# EAGLE library part TMS2808-LQFP (library tms2808)
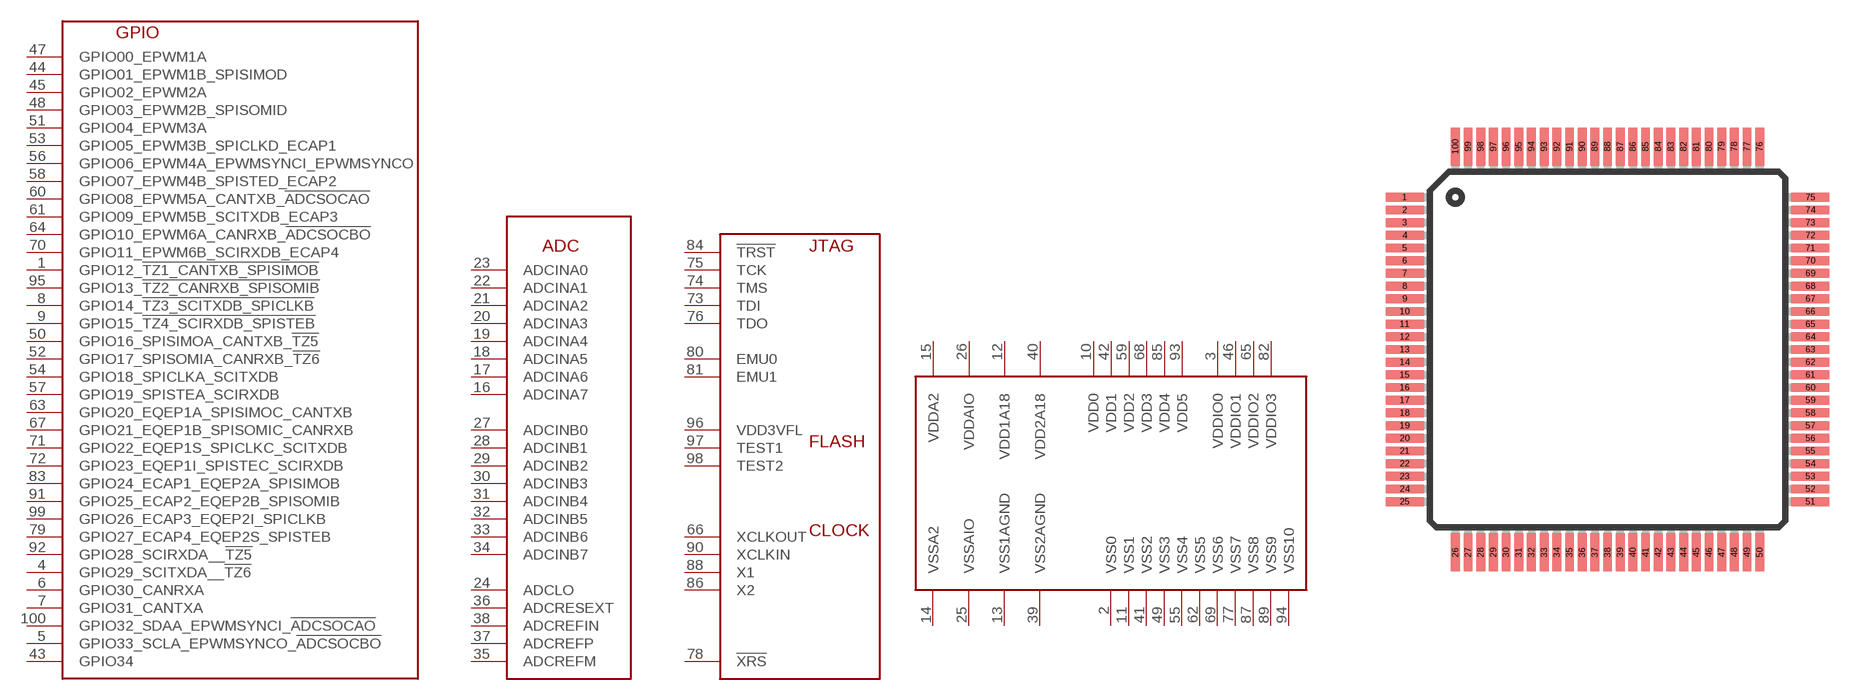
[diagram p0: symbol with the pads of TQFP100; footprint TQFP100]

Designator prefix -; gates G$1=S1 ADC=S2 G$3=S3 JTAG_FLASH_CLOCK=S4

## TMS2808-LQFP  [TQFP100]
1  G$1:GPIO12_!TZ1_CANTXB_SPISIMOB
2  JTAG_FLASH_CLOCK:VSS0  sup
3  JTAG_FLASH_CLOCK:VDDIO0  sup
4  G$1:GPIO29_SCITXDA__!TZ6
5  G$1:GPIO33_SCLA_EPWMSYNCO_!ADCSOCBO
6  G$1:GPIO30_CANRXA
7  G$1:GPIO31_CANTXA
8  G$1:GPIO14_!TZ3_SCITXDB_SPICLKB
9  G$1:GPIO15_!TZ4_SCIRXDB_SPISTEB
10  JTAG_FLASH_CLOCK:VDD0  sup
11  JTAG_FLASH_CLOCK:VSS1  sup
12  JTAG_FLASH_CLOCK:VDD1A18  sup
13  JTAG_FLASH_CLOCK:VSS1AGND  sup
14  JTAG_FLASH_CLOCK:VSSA2  sup
15  JTAG_FLASH_CLOCK:VDDA2  sup
16  ADC:ADCINA7
17  ADC:ADCINA6
18  ADC:ADCINA5
19  ADC:ADCINA4
20  ADC:ADCINA3
21  ADC:ADCINA2
22  ADC:ADCINA1
23  ADC:ADCINA0
24  ADC:ADCLO
25  JTAG_FLASH_CLOCK:VSSAIO  sup
26  JTAG_FLASH_CLOCK:VDDAIO  sup
27  ADC:ADCINB0
28  ADC:ADCINB1
29  ADC:ADCINB2
30  ADC:ADCINB3
31  ADC:ADCINB4
32  ADC:ADCINB5
33  ADC:ADCINB6
34  ADC:ADCINB7
35  ADC:ADCREFM
36  ADC:ADCRESEXT
37  ADC:ADCREFP
38  ADC:ADCREFIN
39  JTAG_FLASH_CLOCK:VSS2AGND  sup
40  JTAG_FLASH_CLOCK:VDD2A18  sup
41  JTAG_FLASH_CLOCK:VSS2  sup
42  JTAG_FLASH_CLOCK:VDD1  sup
43  G$1:GPIO34
44  G$1:GPIO01_EPWM1B_SPISIMOD
45  G$1:GPIO02_EPWM2A
46  JTAG_FLASH_CLOCK:VDDIO1  sup
47  G$1:GPIO00_EPWM1A
48  G$1:GPIO03_EPWM2B_SPISOMID
49  JTAG_FLASH_CLOCK:VSS3  sup
50  G$1:GPIO16_SPISIMOA_CANTXB_!TZ5
51  G$1:GPIO04_EPWM3A
52  G$1:GPIO17_SPISOMIA_CANRXB_!TZ6
53  G$1:GPIO05_EPWM3B_SPICLKD_ECAP1
54  G$1:GPIO18_SPICLKA_SCITXDB
55  JTAG_FLASH_CLOCK:VSS4  sup
56  G$1:GPIO06_EPWM4A_EPWMSYNCI_EPWMSYNCO
57  G$1:GPIO19_SPISTEA_SCIRXDB
58  G$1:GPIO07_EPWM4B_SPISTED_ECAP2
59  JTAG_FLASH_CLOCK:VDD2  sup
60  G$1:GPIO08_EPWM5A_CANTXB_!ADCSOCAO
61  G$1:GPIO09_EPWM5B_SCITXDB_ECAP3
62  JTAG_FLASH_CLOCK:VSS5  sup
63  G$1:GPIO20_EQEP1A_SPISIMOC_CANTXB
64  G$1:GPIO10_EPWM6A_CANRXB_!ADCSOCBO
65  JTAG_FLASH_CLOCK:VDDIO2  sup
66  G$3:XCLKOUT
67  G$1:GPIO21_EQEP1B_SPISOMIC_CANRXB
68  JTAG_FLASH_CLOCK:VDD3  sup
69  JTAG_FLASH_CLOCK:VSS6  sup
70  G$1:GPIO11_EPWM6B_SCIRXDB_ECAP4
71  G$1:GPIO22_EQEP1S_SPICLKC_SCITXDB
72  G$1:GPIO23_EQEP1I_SPISTEC_SCIRXDB
73  G$3:TDI
74  G$3:TMS
75  G$3:TCK
76  G$3:TDO
77  JTAG_FLASH_CLOCK:VSS7  sup
78  G$3:!XRS
79  G$1:GPIO27_ECAP4_EQEP2S_SPISTEB
80  G$3:EMU0
81  G$3:EMU1
82  JTAG_FLASH_CLOCK:VDDIO3  sup
83  G$1:GPIO24_ECAP1_EQEP2A_SPISIMOB
84  G$3:!TRST
85  JTAG_FLASH_CLOCK:VDD4  sup
86  G$3:X2
87  JTAG_FLASH_CLOCK:VSS8  sup
88  G$3:X1
89  JTAG_FLASH_CLOCK:VSS9  sup
90  G$3:XCLKIN
91  G$1:GPIO25_ECAP2_EQEP2B_SPISOMIB
92  G$1:GPIO28_SCIRXDA__!TZ5
93  JTAG_FLASH_CLOCK:VDD5  sup
94  JTAG_FLASH_CLOCK:VSS10  sup
95  G$1:GPIO13_!TZ2_CANRXB_SPISOMIB
96  G$3:VDD3VFL  sup
97  G$3:TEST1
98  G$3:TEST2
99  G$1:GPIO26_ECAP3_EQEP2I_SPICLKB
100  G$1:GPIO32_SDAA_EPWMSYNCI_!ADCSOCAO

## Footprint TQFP100 (pad centres in mm)
Plastic Thin Quad Flat Pack
smd 1.5 x 0.35: 1 -8,6; 2 -8,5.5; 3 -8,5; 4 -8,4.5; 5 -8,4; 6 -8,3.5; 7 -8,3; 8 -8,2.5; 9 -8,2; 10 -8,1.5; 11 -8,1; 12 -8,0.5; 13 -8,0; 14 -8,-0.5; 15 -8,-1; 16 -8,-1.5; 17 -8,-2; 18 -8,-2.5; 19 -8,-3; 20 -8,-3.5; 21 -8,-4; 22 -8,-4.5; 23 -8,-5; 24 -8,-5.5; 25 -8,-6; 51 8,-6; 52 8,-5.5; 53 8,-5; 54 8,-4.5; 55 8,-4; 56 8,-3.5; 57 8,-3; 58 8,-2.5; 59 8,-2; 60 8,-1.5; 61 8,-1; 62 8,-0.5; 63 8,0; 64 8,0.5; 65 8,1; 66 8,1.5; 67 8,2; 68 8,2.5; 69 8,3; 70 8,3.5; 71 8,4; 72 8,4.5; 73 8,5; 74 8,5.5; 75 8,6
smd 0.35 x 1.5: 26 -6,-8; 27 -5.5,-8; 28 -5,-8; 29 -4.5,-8; 30 -4,-8; 31 -3.5,-8; 32 -3,-8; 33 -2.5,-8; 34 -2,-8; 35 -1.5,-8; 36 -1,-8; 37 -0.5,-8; 38 0,-8; 39 0.5,-8; 40 1,-8; 41 1.5,-8; 42 2,-8; 43 2.5,-8; 44 3,-8; 45 3.5,-8; 46 4,-8; 47 4.5,-8; 48 5,-8; 49 5.5,-8; 50 6,-8; 76 6,8; 77 5.5,8; 78 5,8; 79 4.5,8; 80 4,8; 81 3.5,8; 82 3,8; 83 2.5,8; 84 2,8; 85 1.5,8; 86 1,8; 87 0.5,8; 88 0,8; 89 -0.5,8; 90 -1,8; 91 -1.5,8; 92 -2,8; 93 -2.5,8; 94 -3,8; 95 -3.5,8; 96 -4,8; 97 -4.5,8; 98 -5,8; 99 -5.5,8; 100 -6,8